# EAGLE library part MAX4619 (library analog)
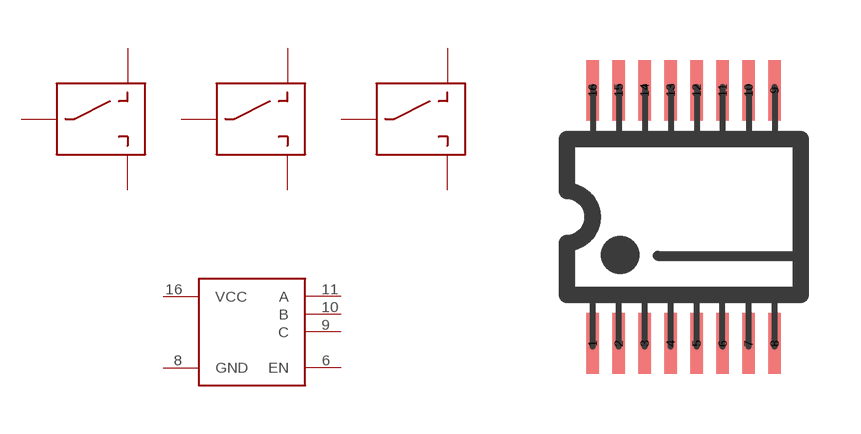
[diagram p5: symbol with the pads of TSSOP16; footprint TSSOP16]

Designator prefix -; gates CTL=MAX4619_CONTROL A=SPDT_SWITCH B=SPDT_SWITCH C=SPDT_SWITCH

## MAX4619  [TSSOP16]
1  B:Y1
2  B:Y0
3  C:Y1
4  C:X
5  C:Y0
6  CTL:EN  in
8  CTL:GND  pwr
9  CTL:C  in
10  CTL:B  in
11  CTL:A  in
12  A:Y0
13  A:Y1
14  A:X
15  B:X
16  CTL:VCC  pwr

## Footprint TSSOP16 (pad centres in mm)
TSSOP16, SMD TSSOP IC package (0.65mm pitch), 16 pins
smd 0.305 x 1.524: 1 -2.275,-3.169; 2 -1.625,-3.169; 3 -0.975,-3.169; 4 -0.325,-3.169; 5 0.325,-3.169; 6 0.975,-3.169; 7 1.625,-3.169; 8 2.275,-3.169; 9 2.275,3.169; 10 1.625,3.169; 11 0.975,3.169; 12 0.325,3.169; 13 -0.325,3.169; 14 -0.975,3.169; 15 -1.625,3.169; 16 -2.275,3.169